# Altium integrated library NSC Logic Multiplexer.IntLib: 335 symbols (part 7 of 7)
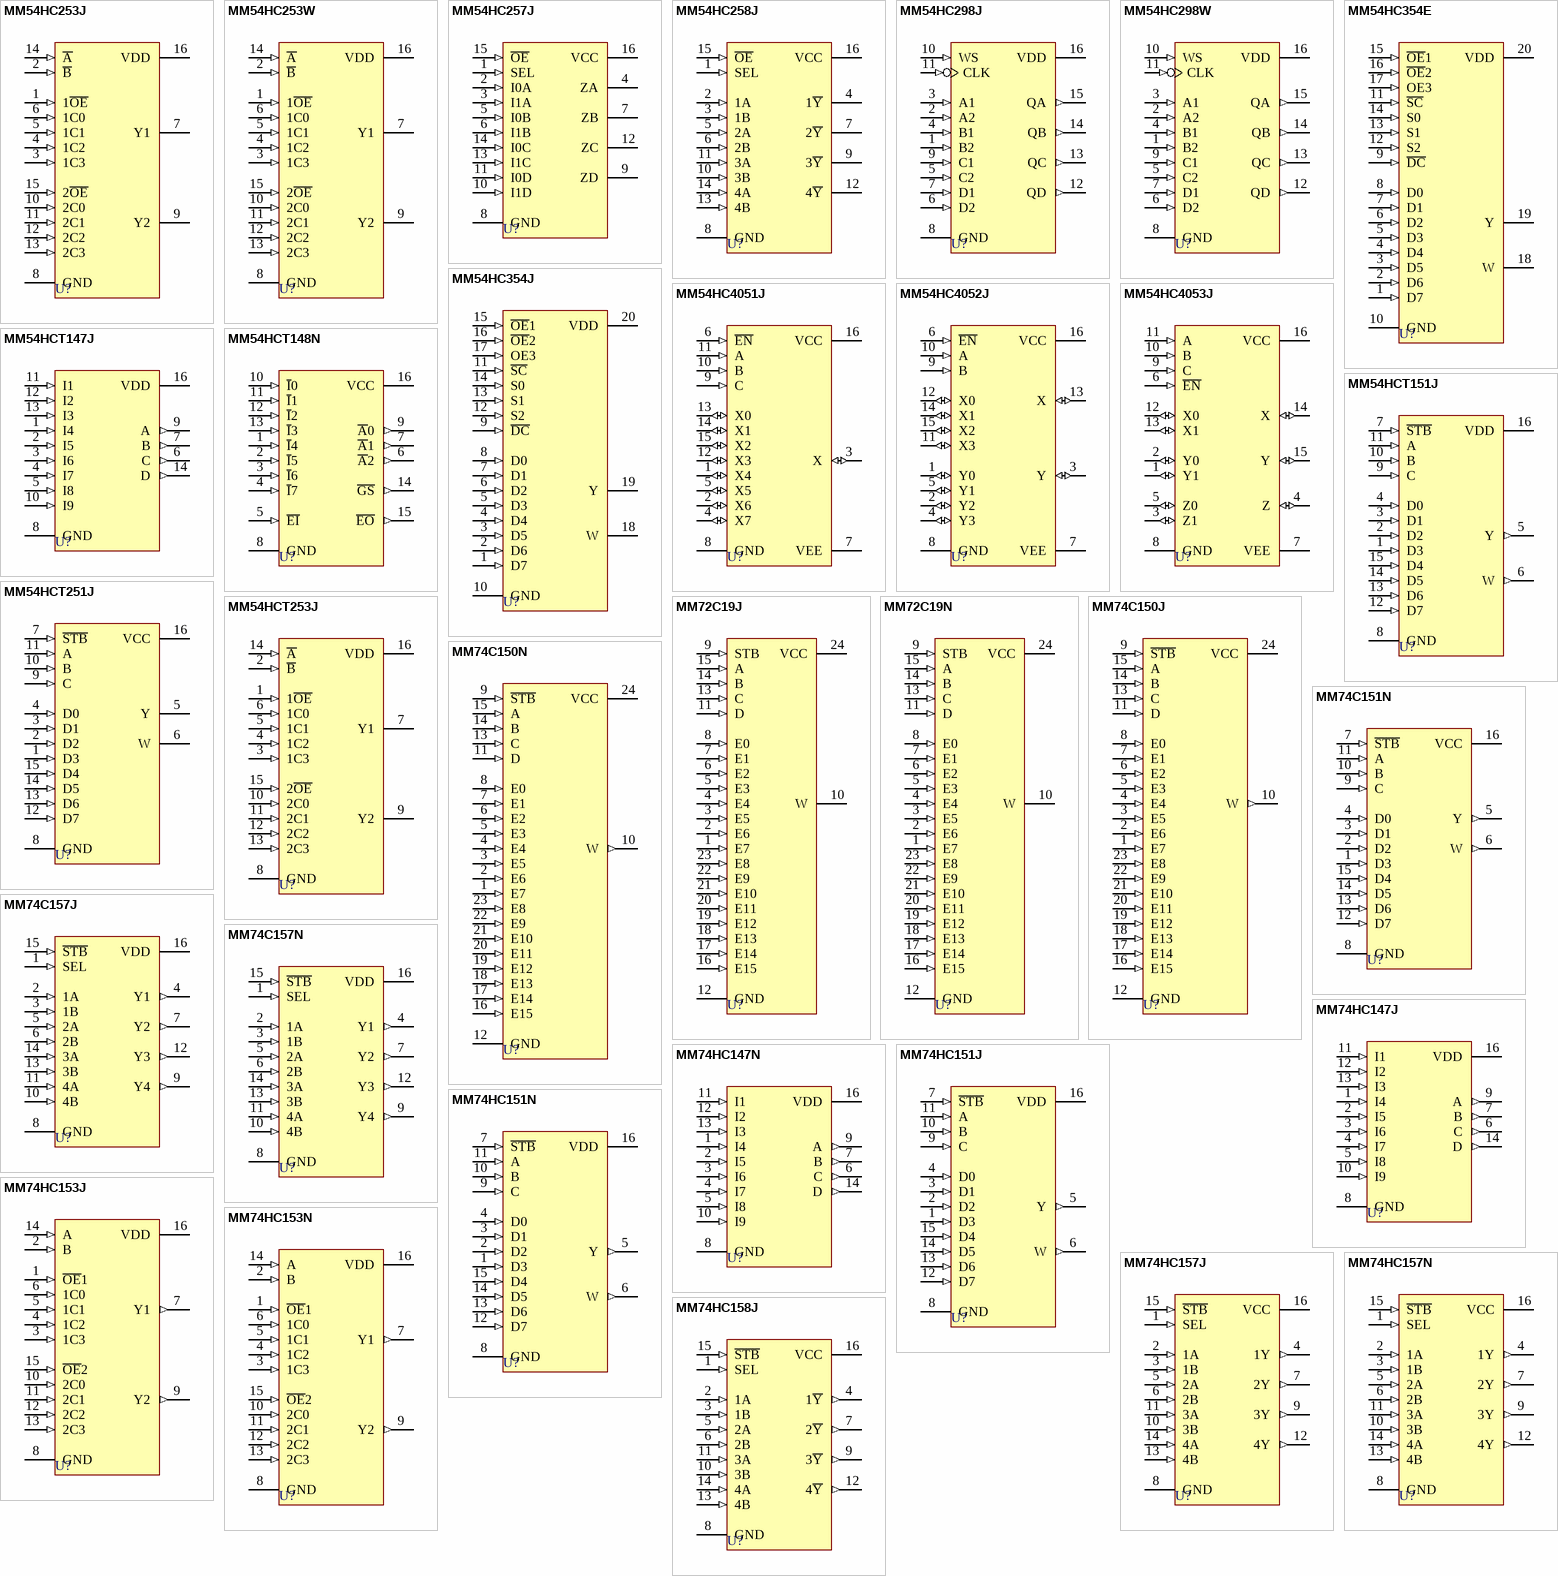
[diagram p16: symbols MM54HC253J to MM74HC158J]

## MM74HC157J
designator U?
Quad 2-Input Multiplexer; Published: 15-Apr-2002; LatestRevisionDate: 06-Jun-2005; LatestRevisionNote: Stylized 3D Model Added.; DatasheetVersion: Nov-1995; PackageVersion: 2000; PackageReference: J16A; Publisher: Altium Limited; PackageDescription: DIP; 16 Leads; Row Spacing 7.62 mm; Pitch 2.54 mm; ComponentLink1Description: Manufacturer Link; ComponentLink1URL: http://www.national.com/; ComponentLink2Description: Datasheet; ComponentLink2URL: http://www.fairchildsemi.com/ds/MM/MM74HC157.pdf; ComponentLink3Description: URL Link1; ComponentLink3URL: http://www.fairchildsemi.com/pf/MM/MM74HC157.html
footprint J16A (DIP; 16 Leads; Row Spacing 7.62 mm; Pitch 2.54 mm)
3D model J16A (DIP; 16 Leads; Row Spacing 7.62 mm; Pitch 2.54 mm)
signal-integrity model MM74HC157J
pins: 1 SEL (in), 2 1A (in), 3 1B (in), 4 1Y (out), 5 2A (in), 6 2B (in), 7 2Y (out), 8 GND (power), 9 3Y (out), 10 3B (in), 11 3A (in), 12 4Y (out), 13 4B (in), 14 4A (in), 15 ~{STB} (in), 16 VCC (power)

## MM74HC157N
designator U?
Quad 2-Input Multiplexer; Published: 15-Apr-2002; LatestRevisionDate: 06-Jun-2005; LatestRevisionNote: Stylized 3D Model Added.; DatasheetVersion: Nov-1995; PackageVersion: 2000; PackageReference: N16E; Publisher: Altium Limited; PackageDescription: DIP; 16 Leads; Row Spacing 7.62 mm; Pitch 2.54 mm; ComponentLink1Description: Manufacturer Link; ComponentLink1URL: http://www.national.com/; ComponentLink2Description: Datasheet; ComponentLink2URL: http://www.fairchildsemi.com/ds/MM/MM74HC157.pdf; ComponentLink3Description: URL Link1; ComponentLink3URL: http://www.fairchildsemi.com/pf/MM/MM74HC157.html
footprint N16E (DIP; 16 Leads; Row Spacing 7.62 mm; Pitch 2.54 mm)
3D model J16A (DIP; 16 Leads; Row Spacing 7.62 mm; Pitch 2.54 mm)
signal-integrity model MM74HC157N
pins: 1 SEL (in), 2 1A (in), 3 1B (in), 4 1Y (out), 5 2A (in), 6 2B (in), 7 2Y (out), 8 GND (power), 9 3Y (out), 10 3B (in), 11 3A (in), 12 4Y (out), 13 4B (in), 14 4A (in), 15 ~{STB} (in), 16 VCC (power)

## MM74HC158J
designator U?
Quad 2-Input Multiplexer; Published: 15-Apr-2002; LatestRevisionDate: 06-Jun-2005; LatestRevisionNote: Stylized 3D Model Added.; DatasheetVersion: Nov-1995; PackageVersion: 2000; PackageReference: J16A; Publisher: Altium Limited; PackageDescription: DIP; 16 Leads; Row Spacing 7.62 mm; Pitch 2.54 mm; ComponentLink1Description: Manufacturer Link; ComponentLink1URL: http://www.national.com/
footprint J16A (DIP; 16 Leads; Row Spacing 7.62 mm; Pitch 2.54 mm)
3D model J16A (DIP; 16 Leads; Row Spacing 7.62 mm; Pitch 2.54 mm)
simulation model 74LS158 (SIMCODE)
signal-integrity model MM74HC158J
pins: 1 SEL (in), 2 1A (in), 3 1B (in), 4 1~{Y} (out), 5 2A (in), 6 2B (in), 7 2~{Y} (out), 8 GND (power), 9 3~{Y} (out), 10 3B (in), 11 3A (in), 12 4~{Y} (out), 13 4B (in), 14 4A (in), 15 ~{STB} (in), 16 VCC (power)

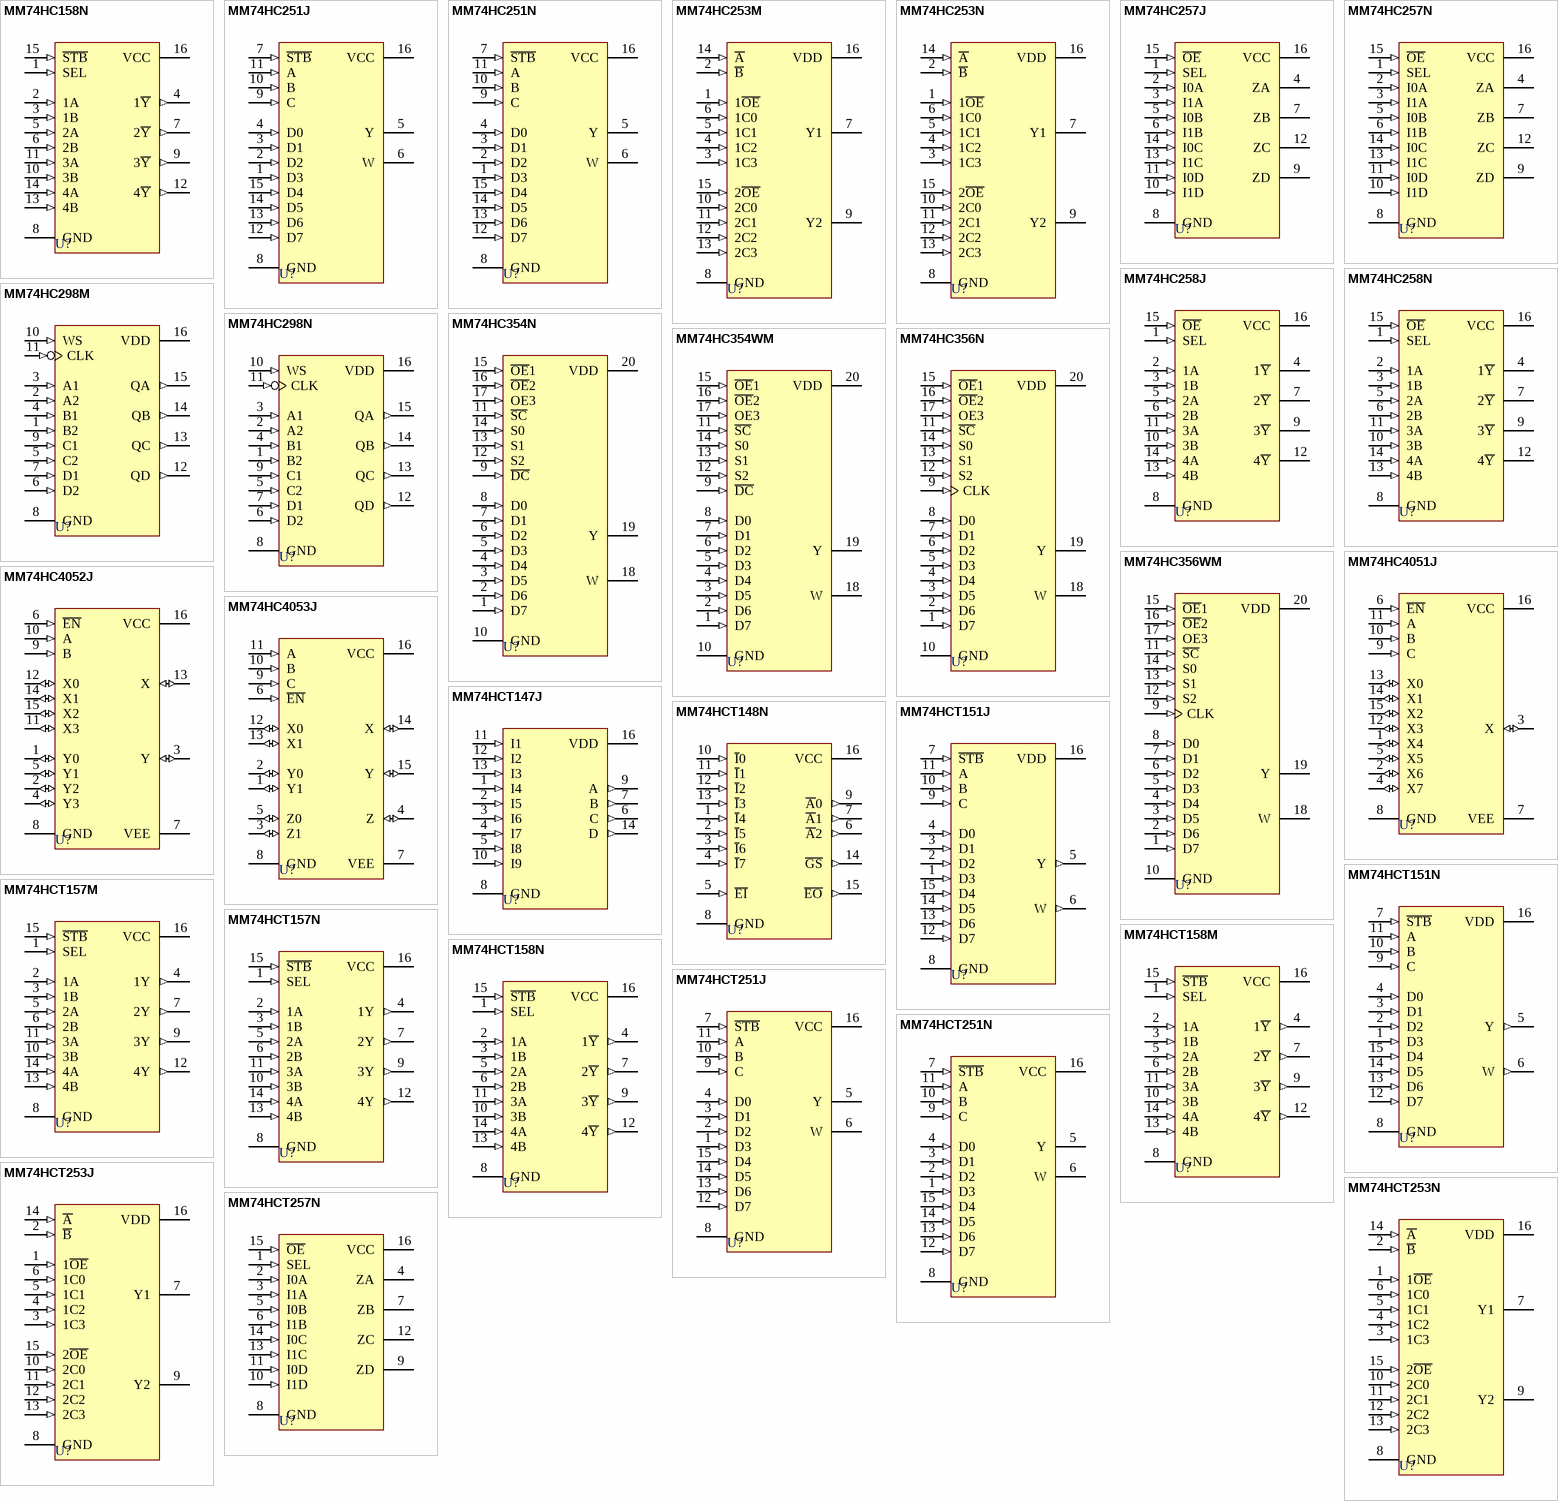
[diagram p9: symbols MM74HC158N to MM74HCT257N]

## MM74HC158N
designator U?
Quad 2-Input Multiplexer; Published: 15-Apr-2002; LatestRevisionDate: 06-Jun-2005; LatestRevisionNote: Stylized 3D Model Added.; DatasheetVersion: Nov-1995; PackageVersion: 2000; PackageReference: N16E; Publisher: Altium Limited; PackageDescription: DIP; 16 Leads; Row Spacing 7.62 mm; Pitch 2.54 mm; ComponentLink1Description: Manufacturer Link; ComponentLink1URL: http://www.national.com/
footprint N16E (DIP; 16 Leads; Row Spacing 7.62 mm; Pitch 2.54 mm)
3D model J16A (DIP; 16 Leads; Row Spacing 7.62 mm; Pitch 2.54 mm)
simulation model 74LS158 (SIMCODE)
signal-integrity model MM74HC158N
pins: 1 SEL (in), 2 1A (in), 3 1B (in), 4 1~{Y} (out), 5 2A (in), 6 2B (in), 7 2~{Y} (out), 8 GND (power), 9 3~{Y} (out), 10 3B (in), 11 3A (in), 12 4~{Y} (out), 13 4B (in), 14 4A (in), 15 ~{STB} (in), 16 VCC (power)

## MM74HC251J
designator U?
8-Channel Tri-State Multiplexer; Published: 15-Apr-2002; LatestRevisionDate: 06-Jun-2005; LatestRevisionNote: Stylized 3D Model Added.; DatasheetVersion: Jan-1988; PackageVersion: 2000; PackageReference: J16A; Publisher: Altium Limited; PackageDescription: DIP; 16 Leads; Row Spacing 7.62 mm; Pitch 2.54 mm; ComponentLink1Description: Manufacturer Link; ComponentLink1URL: http://www.national.com/; ComponentLink2Description: Datasheet; ComponentLink2URL: http://www.fairchildsemi.com/ds/MM/MM74HC251.pdf; ComponentLink3Description: URL Link1; ComponentLink3URL: http://www.fairchildsemi.com/pf/MM/MM74HC251.html
footprint J16A (DIP; 16 Leads; Row Spacing 7.62 mm; Pitch 2.54 mm)
3D model J16A (DIP; 16 Leads; Row Spacing 7.62 mm; Pitch 2.54 mm)
simulation model 74LS251 (SIMCODE)
signal-integrity model MM74HC251J
pins: 1 D3 (in), 2 D2 (in), 3 D1 (in), 4 D0 (in), 5 Y (hiz), 6 W (hiz), 7 ~{STB} (in), 8 GND (power), 9 C (in), 10 B (in), 11 A (in), 12 D7 (in), 13 D6 (in), 14 D5 (in), 15 D4 (in), 16 VCC (power)

## MM74HC251N
designator U?
8-Channel Tri-State Multiplexer; Published: 15-Apr-2002; LatestRevisionDate: 06-Jun-2005; LatestRevisionNote: Stylized 3D Model Added.; DatasheetVersion: Jan-1988; PackageVersion: 2000; PackageReference: N16E; Publisher: Altium Limited; PackageDescription: DIP; 16 Leads; Row Spacing 7.62 mm; Pitch 2.54 mm; ComponentLink1Description: Manufacturer Link; ComponentLink1URL: http://www.national.com/; ComponentLink2Description: Datasheet; ComponentLink2URL: http://www.fairchildsemi.com/ds/MM/MM74HC251.pdf; ComponentLink3Description: URL Link1; ComponentLink3URL: http://www.fairchildsemi.com/pf/MM/MM74HC251.html
footprint N16E (DIP; 16 Leads; Row Spacing 7.62 mm; Pitch 2.54 mm)
3D model J16A (DIP; 16 Leads; Row Spacing 7.62 mm; Pitch 2.54 mm)
simulation model 74LS251 (SIMCODE)
signal-integrity model MM74HC251N
pins: 1 D3 (in), 2 D2 (in), 3 D1 (in), 4 D0 (in), 5 Y (hiz), 6 W (hiz), 7 ~{STB} (in), 8 GND (power), 9 C (in), 10 B (in), 11 A (in), 12 D7 (in), 13 D6 (in), 14 D5 (in), 15 D4 (in), 16 VCC (power)

## MM74HC253M
designator U?
Dual 4-Channel Tri-State Multiplexer; Published: 15-Apr-2002; LatestRevisionDate: 13-Apr-2006; LatestRevisionNote: IPC-7351 Footprint Added.; DatasheetVersion: 1988; PackageVersion: 2000; PackageReference: M16A; Publisher: Altium Limited; PackageDescription: 16-Pin Small Outline Integrated Circuit 1.27 mm Pitch; Code_IPC: SOIC127P600-16; ComponentLink1Description: Manufacturer Link; ComponentLink1URL: http://www.national.com/
footprint M16A_N (SOIC, 16-Leads, Body 9.9x3.9mm, Pitch 1.27mm, IPC Medium Density)
footprint M16A_L (SOIC, 16-Leads, Body 9.9x3.9mm, Pitch 1.27mm, IPC High Density)
footprint M16A_M (SOIC, 16-Leads, Body 9.9x3.9mm, Pitch 1.27mm, IPC Low Density)
3D model M16A (16-Pin Small Outline Integrated Circuit 1.27 mm Pitch)
simulation model 74LS253 (SIMCODE)
signal-integrity model MM74HC253M
pins: 1 1~{OE} (in), 2 ~{B} (in), 3 1C3 (in), 4 1C2 (in), 5 1C1 (in), 6 1C0 (in), 7 Y1 (hiz), 8 GND (power), 9 Y2 (hiz), 10 2C0 (in), 11 2C1 (in), 12 2C2 (in), 13 2C3 (in), 14 ~{A} (in), 15 2~{OE} (in), 16 VDD (power)

## MM74HC253N
designator U?
Dual 4-Channel Tri-State Multiplexer; Published: 15-Apr-2002; LatestRevisionDate: 06-Jun-2005; LatestRevisionNote: Stylized 3D Model Added.; DatasheetVersion: 1988; PackageVersion: 2000; PackageReference: N16E; Publisher: Altium Limited; PackageDescription: DIP; 16 Leads; Row Spacing 7.62 mm; Pitch 2.54 mm; ComponentLink1Description: Manufacturer Link; ComponentLink1URL: http://www.national.com/
footprint N16E (DIP; 16 Leads; Row Spacing 7.62 mm; Pitch 2.54 mm)
3D model J16A (DIP; 16 Leads; Row Spacing 7.62 mm; Pitch 2.54 mm)
simulation model 74LS253 (SIMCODE)
signal-integrity model MM74HC253N
pins: 1 1~{OE} (in), 2 ~{B} (in), 3 1C3 (in), 4 1C2 (in), 5 1C1 (in), 6 1C0 (in), 7 Y1 (hiz), 8 GND (power), 9 Y2 (hiz), 10 2C0 (in), 11 2C1 (in), 12 2C2 (in), 13 2C3 (in), 14 ~{A} (in), 15 2~{OE} (in), 16 VDD (power)

## MM74HC257J
designator U?
Quad 2-Channel Tri-State Multiplexer; Published: 15-Apr-2002; LatestRevisionDate: 06-Jun-2005; LatestRevisionNote: Stylized 3D Model Added.; DatasheetVersion: Nov-1995; PackageVersion: 2000; PackageReference: J16A; Publisher: Altium Limited; PackageDescription: DIP; 16 Leads; Row Spacing 7.62 mm; Pitch 2.54 mm; ComponentLink1Description: Manufacturer Link; ComponentLink1URL: http://www.national.com/
footprint J16A (DIP; 16 Leads; Row Spacing 7.62 mm; Pitch 2.54 mm)
3D model J16A (DIP; 16 Leads; Row Spacing 7.62 mm; Pitch 2.54 mm)
simulation model 74LS257 (SIMCODE)
signal-integrity model MM74HC257J
pins: 1 SEL (in), 2 I0A (in), 3 I1A (in), 4 ZA (hiz), 5 I0B (in), 6 I1B (in), 7 ZB (hiz), 8 GND (power), 9 ZD (hiz), 10 I1D (in), 11 I0D (in), 12 ZC (hiz), 13 I1C (in), 14 I0C (in), 15 ~{OE} (in), 16 VCC (power)

## MM74HC257N
designator U?
Quad 2-Channel Tri-State Multiplexer; Published: 15-Apr-2002; LatestRevisionDate: 06-Jun-2005; LatestRevisionNote: Stylized 3D Model Added.; DatasheetVersion: Nov-1995; PackageVersion: 2000; PackageReference: N16E; Publisher: Altium Limited; PackageDescription: DIP; 16 Leads; Row Spacing 7.62 mm; Pitch 2.54 mm; ComponentLink1Description: Manufacturer Link; ComponentLink1URL: http://www.national.com/
footprint N16E (DIP; 16 Leads; Row Spacing 7.62 mm; Pitch 2.54 mm)
3D model J16A (DIP; 16 Leads; Row Spacing 7.62 mm; Pitch 2.54 mm)
simulation model 74LS257 (SIMCODE)
signal-integrity model MM74HC257N
pins: 1 SEL (in), 2 I0A (in), 3 I1A (in), 4 ZA (hiz), 5 I0B (in), 6 I1B (in), 7 ZB (hiz), 8 GND (power), 9 ZD (hiz), 10 I1D (in), 11 I0D (in), 12 ZC (hiz), 13 I1C (in), 14 I0C (in), 15 ~{OE} (in), 16 VCC (power)

## MM74HC258J
designator U?
Quad 2-Channel Tri-State Multiplexer; Published: 15-Apr-2002; LatestRevisionDate: 06-Jun-2005; LatestRevisionNote: Stylized 3D Model Added.; DatasheetVersion: Nov-1995; PackageVersion: 2000; PackageReference: J16A; Publisher: Altium Limited; PackageDescription: DIP; 16 Leads; Row Spacing 7.62 mm; Pitch 2.54 mm; ComponentLink1Description: Manufacturer Link; ComponentLink1URL: http://www.national.com/
footprint J16A (DIP; 16 Leads; Row Spacing 7.62 mm; Pitch 2.54 mm)
3D model J16A (DIP; 16 Leads; Row Spacing 7.62 mm; Pitch 2.54 mm)
simulation model 74LS258 (SIMCODE)
signal-integrity model MM74HC258J
pins: 1 SEL (in), 2 1A (in), 3 1B (in), 4 1~{Y} (hiz), 5 2A (in), 6 2B (in), 7 2~{Y} (hiz), 8 GND (power), 9 3~{Y} (hiz), 10 3B (in), 11 3A (in), 12 4~{Y} (hiz), 13 4B (in), 14 4A (in), 15 ~{OE} (in), 16 VCC (power)

## MM74HC258N
designator U?
Quad 2-Channel Tri-State Multiplexer; Published: 15-Apr-2002; LatestRevisionDate: 06-Jun-2005; LatestRevisionNote: Stylized 3D Model Added.; DatasheetVersion: Nov-1995; PackageVersion: 2000; PackageReference: N16E; Publisher: Altium Limited; PackageDescription: DIP; 16 Leads; Row Spacing 7.62 mm; Pitch 2.54 mm; ComponentLink1Description: Manufacturer Link; ComponentLink1URL: http://www.national.com/
footprint N16E (DIP; 16 Leads; Row Spacing 7.62 mm; Pitch 2.54 mm)
3D model J16A (DIP; 16 Leads; Row Spacing 7.62 mm; Pitch 2.54 mm)
simulation model 74LS258 (SIMCODE)
signal-integrity model MM74HC258N
pins: 1 SEL (in), 2 1A (in), 3 1B (in), 4 1~{Y} (hiz), 5 2A (in), 6 2B (in), 7 2~{Y} (hiz), 8 GND (power), 9 3~{Y} (hiz), 10 3B (in), 11 3A (in), 12 4~{Y} (hiz), 13 4B (in), 14 4A (in), 15 ~{OE} (in), 16 VCC (power)

## MM74HC298M
designator U?
Quad 2-Input Multiplexer with Storage; Published: 15-Apr-2002; LatestRevisionDate: 13-Apr-2006; LatestRevisionNote: IPC-7351 Footprint Added.; DatasheetVersion: 1988; PackageVersion: 2000; PackageReference: M16A; Publisher: Altium Limited; PackageDescription: 16-Pin Small Outline Integrated Circuit 1.27 mm Pitch; Code_IPC: SOIC127P600-16; ComponentLink1Description: Manufacturer Link; ComponentLink1URL: http://www.national.com/
footprint M16A_N (SOIC, 16-Leads, Body 9.9x3.9mm, Pitch 1.27mm, IPC Medium Density)
footprint M16A_L (SOIC, 16-Leads, Body 9.9x3.9mm, Pitch 1.27mm, IPC High Density)
footprint M16A_M (SOIC, 16-Leads, Body 9.9x3.9mm, Pitch 1.27mm, IPC Low Density)
3D model M16A (16-Pin Small Outline Integrated Circuit 1.27 mm Pitch)
simulation model 74LS298 (SIMCODE)
signal-integrity model MM74HC298M
pins: 1 B2 (in), 2 A2 (in), 3 A1 (in), 4 B1 (in), 5 C2 (in), 6 D2 (in), 7 D1 (in), 8 GND (power), 9 C1 (in), 10 WS (in), 11 CLK (in), 12 QD (out), 13 QC (out), 14 QB (out), 15 QA (out), 16 VDD (power)

## MM74HC298N
designator U?
Quad 2-Input Multiplexer with Storage; Published: 15-Apr-2002; LatestRevisionDate: 06-Jun-2005; LatestRevisionNote: Stylized 3D Model Added.; DatasheetVersion: 1988; PackageVersion: 2000; PackageReference: N16E; Publisher: Altium Limited; PackageDescription: DIP; 16 Leads; Row Spacing 7.62 mm; Pitch 2.54 mm; ComponentLink1Description: Manufacturer Link; ComponentLink1URL: http://www.national.com/
footprint N16E (DIP; 16 Leads; Row Spacing 7.62 mm; Pitch 2.54 mm)
3D model J16A (DIP; 16 Leads; Row Spacing 7.62 mm; Pitch 2.54 mm)
simulation model 74LS298 (SIMCODE)
signal-integrity model MM74HC298N
pins: 1 B2 (in), 2 A2 (in), 3 A1 (in), 4 B1 (in), 5 C2 (in), 6 D2 (in), 7 D1 (in), 8 GND (power), 9 C1 (in), 10 WS (in), 11 CLK (in), 12 QD (out), 13 QC (out), 14 QB (out), 15 QA (out), 16 VDD (power)

## MM74HC354N
designator U?
8-Channel Tri-State Multiplexer with Latch; Published: 15-Apr-2002; LatestRevisionDate: 06-Jun-2005; LatestRevisionNote: Stylized 3D Model Added.; DatasheetVersion: 1988; PackageVersion: 2000; PackageReference: N20A; Publisher: Altium Limited; PackageDescription: DIP; 20 Leads; Row Spacing 7.62 mm; Pitch 2.54 mm; Code_JEDEC: MS-001-AD; ComponentLink1Description: Manufacturer Link; ComponentLink1URL: http://www.national.com/
footprint N20A (DIP; 20 Leads; Row Spacing 7.62 mm; Pitch 2.54 mm)
3D model N20A (DIP; 20 Leads; Row Spacing 7.62 mm; Pitch 2.54 mm)
signal-integrity model MM74HC354N
pins: 1 D7 (in), 2 D6 (in), 3 D5 (in), 4 D4 (in), 5 D3 (in), 6 D2 (in), 7 D1 (in), 8 D0 (in), 9 ~{DC} (in), 10 GND (power), 11 ~{SC} (in), 12 S2 (in), 13 S1 (in), 14 S0 (in), 15 ~{OE}1 (in), 16 ~{OE}2 (in), 17 OE3 (in), 18 W (hiz), 19 Y (hiz), 20 VDD (power)

## MM74HC354WM
designator U?
8-Channel Tri-State Multiplexer with Latch; Published: 15-Apr-2002; LatestRevisionDate: 13-Apr-2006; LatestRevisionNote: IPC-7351 Footprint Added.; DatasheetVersion: 1988; PackageVersion: 2000; PackageReference: M20B; Publisher: Altium Limited; PackageDescription: 20-Pin Small Outline Integrated Circuit 1.27 mm Pitch; Code_JEDEC: MS-013-AC; Code_IPC: SOIC127P1030-20; ComponentLink1Description: Manufacturer Link; ComponentLink1URL: http://www.national.com/
footprint M20B_N (SOIC, 20-Leads, Body 12.8x7.5mm, Pitch 1.27mm, IPC Medium Density)
footprint M20B_L (SOIC, 20-Leads, Body 12.8x7.5mm, Pitch 1.27mm, IPC High Density)
footprint M20B_M (SOIC, 20-Leads, Body 12.8x7.5mm, Pitch 1.27mm, IPC Low Density)
3D model M20B (20-Pin Small Outline Integrated Circuit 1.27 mm Pitch)
signal-integrity model MM74HC354WM
pins: 1 D7 (in), 2 D6 (in), 3 D5 (in), 4 D4 (in), 5 D3 (in), 6 D2 (in), 7 D1 (in), 8 D0 (in), 9 ~{DC} (in), 10 GND (power), 11 ~{SC} (in), 12 S2 (in), 13 S1 (in), 14 S0 (in), 15 ~{OE}1 (in), 16 ~{OE}2 (in), 17 OE3 (in), 18 W (hiz), 19 Y (hiz), 20 VDD (power)

## MM74HC356N
designator U?
8-Channel Tri-State Multiplexer with Latch; Published: 15-Apr-2002; LatestRevisionDate: 06-Jun-2005; LatestRevisionNote: Stylized 3D Model Added.; DatasheetVersion: 1988; PackageVersion: 2000; PackageReference: N20A; Publisher: Altium Limited; PackageDescription: DIP; 20 Leads; Row Spacing 7.62 mm; Pitch 2.54 mm; Code_JEDEC: MS-001-AD; ComponentLink1Description: Manufacturer Link; ComponentLink1URL: http://www.national.com/
footprint N20A (DIP; 20 Leads; Row Spacing 7.62 mm; Pitch 2.54 mm)
3D model N20A (DIP; 20 Leads; Row Spacing 7.62 mm; Pitch 2.54 mm)
signal-integrity model MM74HC356N
pins: 1 D7 (in), 2 D6 (in), 3 D5 (in), 4 D4 (in), 5 D3 (in), 6 D2 (in), 7 D1 (in), 8 D0 (in), 9 CLK (in), 10 GND (power), 11 ~{SC} (in), 12 S2 (in), 13 S1 (in), 14 S0 (in), 15 ~{OE}1 (in), 16 ~{OE}2 (in), 17 OE3 (in), 18 W (hiz), 19 Y (hiz), 20 VDD (power)

## MM74HC356WM
designator U?
8-Channel Tri-State Multiplexer with Latch; Published: 15-Apr-2002; LatestRevisionDate: 13-Apr-2006; LatestRevisionNote: IPC-7351 Footprint Added.; DatasheetVersion: 1988; PackageVersion: 2000; PackageReference: M20B; Publisher: Altium Limited; PackageDescription: 20-Pin Small Outline Integrated Circuit 1.27 mm Pitch; Code_JEDEC: MS-013-AC; Code_IPC: SOIC127P1030-20; ComponentLink1Description: Manufacturer Link; ComponentLink1URL: http://www.national.com/
footprint M20B_N (SOIC, 20-Leads, Body 12.8x7.5mm, Pitch 1.27mm, IPC Medium Density)
footprint M20B_L (SOIC, 20-Leads, Body 12.8x7.5mm, Pitch 1.27mm, IPC High Density)
footprint M20B_M (SOIC, 20-Leads, Body 12.8x7.5mm, Pitch 1.27mm, IPC Low Density)
3D model M20B (20-Pin Small Outline Integrated Circuit 1.27 mm Pitch)
signal-integrity model MM74HC356WM
pins: 1 D7 (in), 2 D6 (in), 3 D5 (in), 4 D4 (in), 5 D3 (in), 6 D2 (in), 7 D1 (in), 8 D0 (in), 9 CLK (in), 10 GND (power), 11 ~{SC} (in), 12 S2 (in), 13 S1 (in), 14 S0 (in), 15 ~{OE}1 (in), 16 ~{OE}2 (in), 17 OE3 (in), 18 W (hiz), 19 Y (hiz), 20 VDD (power)

## MM74HC4051J
designator U?
8-Channel Analog Multiplexer; Published: 15-Apr-2002; LatestRevisionDate: 06-Jun-2005; LatestRevisionNote: Stylized 3D Model Added.; DatasheetVersion: Aug-1989; PackageVersion: 2000; PackageReference: J16A; Publisher: Altium Limited; PackageDescription: DIP; 16 Leads; Row Spacing 7.62 mm; Pitch 2.54 mm; ComponentLink1Description: Manufacturer Link; ComponentLink1URL: http://www.national.com/; ComponentLink2Description: Datasheet; ComponentLink2URL: http://www.fairchildsemi.com/ds/MM/MM74HC4051.pdf; ComponentLink3Description: URL Link1; ComponentLink3URL: http://www.fairchildsemi.com/pf/MM/MM74HC4051.html
footprint J16A (DIP; 16 Leads; Row Spacing 7.62 mm; Pitch 2.54 mm)
3D model J16A (DIP; 16 Leads; Row Spacing 7.62 mm; Pitch 2.54 mm)
signal-integrity model MM74HC4051J
pins: 1 X4 (io), 2 X6 (io), 3 X (io), 4 X7 (io), 5 X5 (io), 6 ~{EN} (in), 7 VEE (power), 8 GND (power), 9 C (in), 10 B (in), 11 A (in), 12 X3 (io), 13 X0 (io), 14 X1 (io), 15 X2 (io), 16 VCC (power)

## MM74HC4052J
designator U?
Dual 4-Channel Analog Multiplexer; Published: 15-Apr-2002; LatestRevisionDate: 06-Jun-2005; LatestRevisionNote: Stylized 3D Model Added.; DatasheetVersion: Aug-1989; PackageVersion: 2000; PackageReference: J16A; Publisher: Altium Limited; PackageDescription: DIP; 16 Leads; Row Spacing 7.62 mm; Pitch 2.54 mm; ComponentLink1Description: Manufacturer Link; ComponentLink1URL: http://www.national.com/; ComponentLink2Description: Datasheet; ComponentLink2URL: http://www.fairchildsemi.com/ds/MM/MM74HC4051.pdf; ComponentLink3Description: URL Link1; ComponentLink3URL: http://www.fairchildsemi.com/pf/MM/MM74HC4052.html
footprint J16A (DIP; 16 Leads; Row Spacing 7.62 mm; Pitch 2.54 mm)
3D model J16A (DIP; 16 Leads; Row Spacing 7.62 mm; Pitch 2.54 mm)
signal-integrity model MM74HC4052J
pins: 1 Y0 (io), 2 Y2 (io), 3 Y (io), 4 Y3 (io), 5 Y1 (io), 6 ~{EN} (in), 7 VEE (power), 8 GND (power), 9 B (in), 10 A (in), 11 X3 (io), 12 X0 (io), 13 X (io), 14 X1 (io), 15 X2 (io), 16 VCC (power)

## MM74HC4053J
designator U?
Triple 2-Channel Analog Multiplexer; Published: 15-Apr-2002; LatestRevisionDate: 06-Jun-2005; LatestRevisionNote: Stylized 3D Model Added.; DatasheetVersion: Aug-1989; PackageVersion: 2000; PackageReference: J16A; Publisher: Altium Limited; PackageDescription: DIP; 16 Leads; Row Spacing 7.62 mm; Pitch 2.54 mm; ComponentLink1Description: Manufacturer Link; ComponentLink1URL: http://www.national.com/; ComponentLink2Description: Datasheet; ComponentLink2URL: http://www.fairchildsemi.com/ds/MM/MM74HC4051.pdf; ComponentLink3Description: URL Link1; ComponentLink3URL: http://www.fairchildsemi.com/pf/MM/MM74HC4053.html
footprint J16A (DIP; 16 Leads; Row Spacing 7.62 mm; Pitch 2.54 mm)
3D model J16A (DIP; 16 Leads; Row Spacing 7.62 mm; Pitch 2.54 mm)
signal-integrity model MM74HC4053J
pins: 1 Y1 (io), 2 Y0 (io), 3 Z1 (io), 4 Z (io), 5 Z0 (io), 6 ~{EN} (in), 7 VEE (power), 8 GND (power), 9 C (in), 10 B (in), 11 A (in), 12 X0 (io), 13 X1 (io), 14 X (io), 15 Y (io), 16 VCC (power)

## MM74HCT147J
designator U?
10 to 4 Line Priority Encoder; Note: Pin 15 is not connected and not drawn; Published: 15-Apr-2002; LatestRevisionDate: 06-Jun-2005; LatestRevisionNote: Stylized 3D Model Added.; DatasheetVersion: Nov-1995; PackageVersion: 2000; PackageReference: J16A; Publisher: Altium Limited; PackageDescription: DIP; 16 Leads; Row Spacing 7.62 mm; Pitch 2.54 mm; ComponentLink1Description: Manufacturer Link; ComponentLink1URL: http://www.national.com/
footprint J16A (DIP; 16 Leads; Row Spacing 7.62 mm; Pitch 2.54 mm)
3D model J16A (DIP; 16 Leads; Row Spacing 7.62 mm; Pitch 2.54 mm)
simulation model 74LS147 (SIMCODE)
signal-integrity model MM74HCT147J
pins: 1 I4 (in), 2 I5 (in), 3 I6 (in), 4 I7 (in), 5 I8 (in), 6 C (out), 7 B (out), 8 GND (power), 9 A (out), 10 I9 (in), 11 I1 (in), 12 I2 (in), 13 I3 (in), 14 D (out), 16 VDD (power)

## MM74HCT148N
designator U?
8-3 Line Priority Encoder; Published: 15-Apr-2002; LatestRevisionDate: 06-Jun-2005; LatestRevisionNote: Stylized 3D Model Added.; DatasheetVersion: Feb-1988; PackageVersion: 2000; PackageReference: N16E; Publisher: Altium Limited; PackageDescription: DIP; 16 Leads; Row Spacing 7.62 mm; Pitch 2.54 mm; ComponentLink1Description: Manufacturer Link; ComponentLink1URL: http://www.national.com/
footprint N16E (DIP; 16 Leads; Row Spacing 7.62 mm; Pitch 2.54 mm)
3D model J16A (DIP; 16 Leads; Row Spacing 7.62 mm; Pitch 2.54 mm)
simulation model 74LS148 (SIMCODE)
signal-integrity model MM74HCT148N
pins: 1 ~{I}4 (in), 2 ~{I}5 (in), 3 ~{I}6 (in), 4 ~{I}7 (in), 5 ~{EI} (in), 6 ~{A}2 (out), 7 ~{A}1 (out), 8 GND (power), 9 ~{A}0 (out), 10 ~{I}0 (in), 11 ~{I}1 (in), 12 ~{I}2 (in), 13 ~{I}3 (in), 14 ~{GS} (out), 15 ~{EO} (out), 16 VCC (power)

## MM74HCT151J
designator U?
8-Channel Digital Multiplexer; Published: 15-Apr-2002; LatestRevisionDate: 06-Jun-2005; LatestRevisionNote: Stylized 3D Model Added.; DatasheetVersion: Nov-1995; PackageVersion: 2000; PackageReference: J16A; Publisher: Altium Limited; PackageDescription: DIP; 16 Leads; Row Spacing 7.62 mm; Pitch 2.54 mm; ComponentLink1Description: Manufacturer Link; ComponentLink1URL: http://www.national.com/
footprint J16A (DIP; 16 Leads; Row Spacing 7.62 mm; Pitch 2.54 mm)
3D model J16A (DIP; 16 Leads; Row Spacing 7.62 mm; Pitch 2.54 mm)
signal-integrity model MM74HCT151J
pins: 1 D3 (in), 2 D2 (in), 3 D1 (in), 4 D0 (in), 5 Y (out), 6 W (out), 7 ~{STB} (in), 8 GND (power), 9 C (in), 10 B (in), 11 A (in), 12 D7 (in), 13 D6 (in), 14 D5 (in), 15 D4 (in), 16 VDD (power)

## MM74HCT151N
designator U?
8-Channel Digital Multiplexer; Published: 15-Apr-2002; LatestRevisionDate: 06-Jun-2005; LatestRevisionNote: Stylized 3D Model Added.; DatasheetVersion: Nov-1995; PackageVersion: 2000; PackageReference: N16E; Publisher: Altium Limited; PackageDescription: DIP; 16 Leads; Row Spacing 7.62 mm; Pitch 2.54 mm; ComponentLink1Description: Manufacturer Link; ComponentLink1URL: http://www.national.com/
footprint N16E (DIP; 16 Leads; Row Spacing 7.62 mm; Pitch 2.54 mm)
3D model J16A (DIP; 16 Leads; Row Spacing 7.62 mm; Pitch 2.54 mm)
signal-integrity model MM74HCT151N
pins: 1 D3 (in), 2 D2 (in), 3 D1 (in), 4 D0 (in), 5 Y (out), 6 W (out), 7 ~{STB} (in), 8 GND (power), 9 C (in), 10 B (in), 11 A (in), 12 D7 (in), 13 D6 (in), 14 D5 (in), 15 D4 (in), 16 VDD (power)

## MM74HCT157M
designator U?
Quad 2-Input Multiplexer; Published: 15-Apr-2002; LatestRevisionDate: 13-Apr-2006; LatestRevisionNote: IPC-7351 Footprint Added.; DatasheetVersion: 1988; PackageVersion: 2000; PackageReference: M16A; Publisher: Altium Limited; PackageDescription: 16-Pin Small Outline Integrated Circuit 1.27 mm Pitch; Code_IPC: SOIC127P600-16; ComponentLink1Description: Manufacturer Link; ComponentLink1URL: http://www.national.com/
footprint M16A_N (SOIC, 16-Leads, Body 9.9x3.9mm, Pitch 1.27mm, IPC Medium Density)
footprint M16A_L (SOIC, 16-Leads, Body 9.9x3.9mm, Pitch 1.27mm, IPC High Density)
footprint M16A_M (SOIC, 16-Leads, Body 9.9x3.9mm, Pitch 1.27mm, IPC Low Density)
3D model M16A (16-Pin Small Outline Integrated Circuit 1.27 mm Pitch)
signal-integrity model MM74HCT157M
pins: 1 SEL (in), 2 1A (in), 3 1B (in), 4 1Y (out), 5 2A (in), 6 2B (in), 7 2Y (out), 8 GND (power), 9 3Y (out), 10 3B (in), 11 3A (in), 12 4Y (out), 13 4B (in), 14 4A (in), 15 ~{STB} (in), 16 VCC (power)

## MM74HCT157N
designator U?
Quad 2-Input Multiplexer; Published: 15-Apr-2002; LatestRevisionDate: 06-Jun-2005; LatestRevisionNote: Stylized 3D Model Added.; DatasheetVersion: 1988; PackageVersion: 2000; PackageReference: N16E; Publisher: Altium Limited; PackageDescription: DIP; 16 Leads; Row Spacing 7.62 mm; Pitch 2.54 mm; ComponentLink1Description: Manufacturer Link; ComponentLink1URL: http://www.national.com/
footprint N16E (DIP; 16 Leads; Row Spacing 7.62 mm; Pitch 2.54 mm)
3D model J16A (DIP; 16 Leads; Row Spacing 7.62 mm; Pitch 2.54 mm)
signal-integrity model MM74HCT157N
pins: 1 SEL (in), 2 1A (in), 3 1B (in), 4 1Y (out), 5 2A (in), 6 2B (in), 7 2Y (out), 8 GND (power), 9 3Y (out), 10 3B (in), 11 3A (in), 12 4Y (out), 13 4B (in), 14 4A (in), 15 ~{STB} (in), 16 VCC (power)

## MM74HCT158M
designator U?
Quad 2-Input Multiplexer; Published: 15-Apr-2002; LatestRevisionDate: 13-Apr-2006; LatestRevisionNote: IPC-7351 Footprint Added.; DatasheetVersion: 1988; PackageVersion: 2000; PackageReference: M16A; Publisher: Altium Limited; PackageDescription: 16-Pin Small Outline Integrated Circuit 1.27 mm Pitch; Code_IPC: SOIC127P600-16; ComponentLink1Description: Manufacturer Link; ComponentLink1URL: http://www.national.com/
footprint M16A_N (SOIC, 16-Leads, Body 9.9x3.9mm, Pitch 1.27mm, IPC Medium Density)
footprint M16A_L (SOIC, 16-Leads, Body 9.9x3.9mm, Pitch 1.27mm, IPC High Density)
footprint M16A_M (SOIC, 16-Leads, Body 9.9x3.9mm, Pitch 1.27mm, IPC Low Density)
3D model M16A (16-Pin Small Outline Integrated Circuit 1.27 mm Pitch)
simulation model 74LS158 (SIMCODE)
signal-integrity model MM74HCT158M
pins: 1 SEL (in), 2 1A (in), 3 1B (in), 4 1~{Y} (out), 5 2A (in), 6 2B (in), 7 2~{Y} (out), 8 GND (power), 9 3~{Y} (out), 10 3B (in), 11 3A (in), 12 4~{Y} (out), 13 4B (in), 14 4A (in), 15 ~{STB} (in), 16 VCC (power)

## MM74HCT158N
designator U?
Quad 2-Input Multiplexer; Published: 15-Apr-2002; LatestRevisionDate: 06-Jun-2005; LatestRevisionNote: Stylized 3D Model Added.; DatasheetVersion: 1988; PackageVersion: 2000; PackageReference: N16E; Publisher: Altium Limited; PackageDescription: DIP; 16 Leads; Row Spacing 7.62 mm; Pitch 2.54 mm; ComponentLink1Description: Manufacturer Link; ComponentLink1URL: http://www.national.com/
footprint N16E (DIP; 16 Leads; Row Spacing 7.62 mm; Pitch 2.54 mm)
3D model J16A (DIP; 16 Leads; Row Spacing 7.62 mm; Pitch 2.54 mm)
simulation model 74LS158 (SIMCODE)
signal-integrity model MM74HCT158N
pins: 1 SEL (in), 2 1A (in), 3 1B (in), 4 1~{Y} (out), 5 2A (in), 6 2B (in), 7 2~{Y} (out), 8 GND (power), 9 3~{Y} (out), 10 3B (in), 11 3A (in), 12 4~{Y} (out), 13 4B (in), 14 4A (in), 15 ~{STB} (in), 16 VCC (power)

## MM74HCT251J
designator U?
8-Channel Tri-State Multiplexer; Published: 15-Apr-2002; LatestRevisionDate: 06-Jun-2005; LatestRevisionNote: Stylized 3D Model Added.; DatasheetVersion: Nov-1995; PackageVersion: 2000; PackageReference: J16A; Publisher: Altium Limited; PackageDescription: DIP; 16 Leads; Row Spacing 7.62 mm; Pitch 2.54 mm; ComponentLink1Description: Manufacturer Link; ComponentLink1URL: http://www.national.com/
footprint J16A (DIP; 16 Leads; Row Spacing 7.62 mm; Pitch 2.54 mm)
3D model J16A (DIP; 16 Leads; Row Spacing 7.62 mm; Pitch 2.54 mm)
simulation model 74LS251 (SIMCODE)
signal-integrity model MM74HCT251J
pins: 1 D3 (in), 2 D2 (in), 3 D1 (in), 4 D0 (in), 5 Y (hiz), 6 W (hiz), 7 ~{STB} (in), 8 GND (power), 9 C (in), 10 B (in), 11 A (in), 12 D7 (in), 13 D6 (in), 14 D5 (in), 15 D4 (in), 16 VCC (power)

## MM74HCT251N
designator U?
8-Channel Tri-State Multiplexer; Published: 15-Apr-2002; LatestRevisionDate: 06-Jun-2005; LatestRevisionNote: Stylized 3D Model Added.; DatasheetVersion: Nov-1995; PackageVersion: 2000; PackageReference: N16E; Publisher: Altium Limited; PackageDescription: DIP; 16 Leads; Row Spacing 7.62 mm; Pitch 2.54 mm; ComponentLink1Description: Manufacturer Link; ComponentLink1URL: http://www.national.com/
footprint N16E (DIP; 16 Leads; Row Spacing 7.62 mm; Pitch 2.54 mm)
3D model J16A (DIP; 16 Leads; Row Spacing 7.62 mm; Pitch 2.54 mm)
simulation model 74LS251 (SIMCODE)
signal-integrity model MM74HCT251N
pins: 1 D3 (in), 2 D2 (in), 3 D1 (in), 4 D0 (in), 5 Y (hiz), 6 W (hiz), 7 ~{STB} (in), 8 GND (power), 9 C (in), 10 B (in), 11 A (in), 12 D7 (in), 13 D6 (in), 14 D5 (in), 15 D4 (in), 16 VCC (power)

## MM74HCT253J
designator U?
Dual 4-Channel Tri-State Multiplexer; Published: 15-Apr-2002; LatestRevisionDate: 06-Jun-2005; LatestRevisionNote: Stylized 3D Model Added.; DatasheetVersion: Jan-1988; PackageVersion: 2000; PackageReference: J16A; Publisher: Altium Limited; PackageDescription: DIP; 16 Leads; Row Spacing 7.62 mm; Pitch 2.54 mm; ComponentLink1Description: Manufacturer Link; ComponentLink1URL: http://www.national.com/
footprint J16A (DIP; 16 Leads; Row Spacing 7.62 mm; Pitch 2.54 mm)
3D model J16A (DIP; 16 Leads; Row Spacing 7.62 mm; Pitch 2.54 mm)
simulation model 74LS253 (SIMCODE)
signal-integrity model MM74HCT253J
pins: 1 1~{OE} (in), 2 ~{B} (in), 3 1C3 (in), 4 1C2 (in), 5 1C1 (in), 6 1C0 (in), 7 Y1 (hiz), 8 GND (power), 9 Y2 (hiz), 10 2C0 (in), 11 2C1 (in), 12 2C2 (in), 13 2C3 (in), 14 ~{A} (in), 15 2~{OE} (in), 16 VDD (power)

## MM74HCT253N
designator U?
Dual 4-Channel Tri-State Multiplexer; Published: 15-Apr-2002; LatestRevisionDate: 06-Jun-2005; LatestRevisionNote: Stylized 3D Model Added.; DatasheetVersion: Jan-1988; PackageVersion: 2000; PackageReference: N16E; Publisher: Altium Limited; PackageDescription: DIP; 16 Leads; Row Spacing 7.62 mm; Pitch 2.54 mm; ComponentLink1Description: Manufacturer Link; ComponentLink1URL: http://www.national.com/
footprint N16E (DIP; 16 Leads; Row Spacing 7.62 mm; Pitch 2.54 mm)
3D model J16A (DIP; 16 Leads; Row Spacing 7.62 mm; Pitch 2.54 mm)
simulation model 74LS253 (SIMCODE)
signal-integrity model MM74HCT253N
pins: 1 1~{OE} (in), 2 ~{B} (in), 3 1C3 (in), 4 1C2 (in), 5 1C1 (in), 6 1C0 (in), 7 Y1 (hiz), 8 GND (power), 9 Y2 (hiz), 10 2C0 (in), 11 2C1 (in), 12 2C2 (in), 13 2C3 (in), 14 ~{A} (in), 15 2~{OE} (in), 16 VDD (power)

## MM74HCT257N
designator U?
Quad 2-Channel Tri-State Multiplexer; Published: 15-Apr-2002; LatestRevisionDate: 06-Jun-2005; LatestRevisionNote: Stylized 3D Model Added.; DatasheetVersion: 1988; PackageVersion: 2000; PackageReference: N16E; Publisher: Altium Limited; PackageDescription: DIP; 16 Leads; Row Spacing 7.62 mm; Pitch 2.54 mm; ComponentLink1Description: Manufacturer Link; ComponentLink1URL: http://www.national.com/
footprint N16E (DIP; 16 Leads; Row Spacing 7.62 mm; Pitch 2.54 mm)
3D model J16A (DIP; 16 Leads; Row Spacing 7.62 mm; Pitch 2.54 mm)
simulation model 74LS257 (SIMCODE)
signal-integrity model MM74HCT257N
pins: 1 SEL (in), 2 I0A (in), 3 I1A (in), 4 ZA (hiz), 5 I0B (in), 6 I1B (in), 7 ZB (hiz), 8 GND (power), 9 ZD (hiz), 10 I1D (in), 11 I0D (in), 12 ZC (hiz), 13 I1C (in), 14 I0C (in), 15 ~{OE} (in), 16 VCC (power)

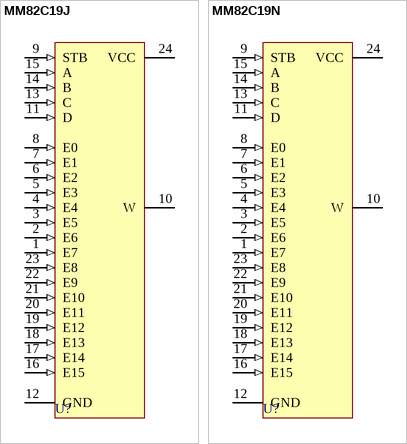
[diagram p10: symbols MM82C19J to MM82C19N]

## MM82C19J
designator U?
Tri-State 16-Line to 1-Line Multiplexer; Published: 15-Apr-2002; LatestRevisionDate: 06-Jun-2005; LatestRevisionNote: Stylized 3D Model Added.; DatasheetVersion: Feb-1988; PackageVersion: 2000; PackageReference: J24A; Publisher: Altium Limited; PackageDescription: DIP; 24 Leads; Row Spacing 15.24 mm; Pitch 2.54 mm; ComponentLink1Description: Manufacturer Link; ComponentLink1URL: http://www.national.com/; ComponentLink2Description: Datasheet; ComponentLink2URL: http://www.national.com/ds.cgi/MM/MM54C150.pdf; ComponentLink3Description: URL Link1; ComponentLink3URL: http://www.national.com/pf/MM/MM54C150.html
footprint J24A (DIP; 24 Leads; Row Spacing 15.24 mm; Pitch 2.54 mm)
3D model J24A (DIP; 24 Leads; Row Spacing 15.24 mm; Pitch 2.54 mm)
pins: 1 E7 (in), 2 E6 (in), 3 E5 (in), 4 E4 (in), 5 E3 (in), 6 E2 (in), 7 E1 (in), 8 E0 (in), 9 STB (in), 10 W (hiz), 11 D (in), 12 GND (power), 13 C (in), 14 B (in), 15 A (in), 16 E15 (in), 17 E14 (in), 18 E13 (in), 19 E12 (in), 20 E11 (in), 21 E10 (in), 22 E9 (in), 23 E8 (in), 24 VCC (power)

## MM82C19N
designator U?
Tri-State 16-Line to 1-Line Multiplexer; Published: 15-Apr-2002; LatestRevisionDate: 06-Jun-2005; LatestRevisionNote: Stylized 3D Model Added.; DatasheetVersion: Feb-1988; PackageVersion: 2000; PackageReference: N24A; Publisher: Altium Limited; PackageDescription: DIP; 24 Leads; Row Spacing 15.24 mm; Pitch 2.54 mm; ComponentLink1Description: Manufacturer Link; ComponentLink1URL: http://www.national.com/; ComponentLink2Description: Datasheet; ComponentLink2URL: http://www.national.com/ds.cgi/MM/MM54C150.pdf; ComponentLink3Description: URL Link1; ComponentLink3URL: http://www.national.com/pf/MM/MM54C150.html
footprint N24A (DIP; 24 Leads; Row Spacing 15.24 mm; Pitch 2.54 mm)
3D model J24A (DIP; 24 Leads; Row Spacing 15.24 mm; Pitch 2.54 mm)
pins: 1 E7 (in), 2 E6 (in), 3 E5 (in), 4 E4 (in), 5 E3 (in), 6 E2 (in), 7 E1 (in), 8 E0 (in), 9 STB (in), 10 W (hiz), 11 D (in), 12 GND (power), 13 C (in), 14 B (in), 15 A (in), 16 E15 (in), 17 E14 (in), 18 E13 (in), 19 E12 (in), 20 E11 (in), 21 E10 (in), 22 E9 (in), 23 E8 (in), 24 VCC (power)